# Altium footprint library SNAKE_FYP.PcbLib: 25 footprints (part 2 of 2)
Each footprint in its own frame and in the unit in brackets; x right, y up, seen from the top. Pads: shape width x height; smd on the part's side, far side on the other; paste and mask are expansions set on the pad; w line width, h text height; cw(c..) or ccw(c..) is an arc to the next point about the centre after c.
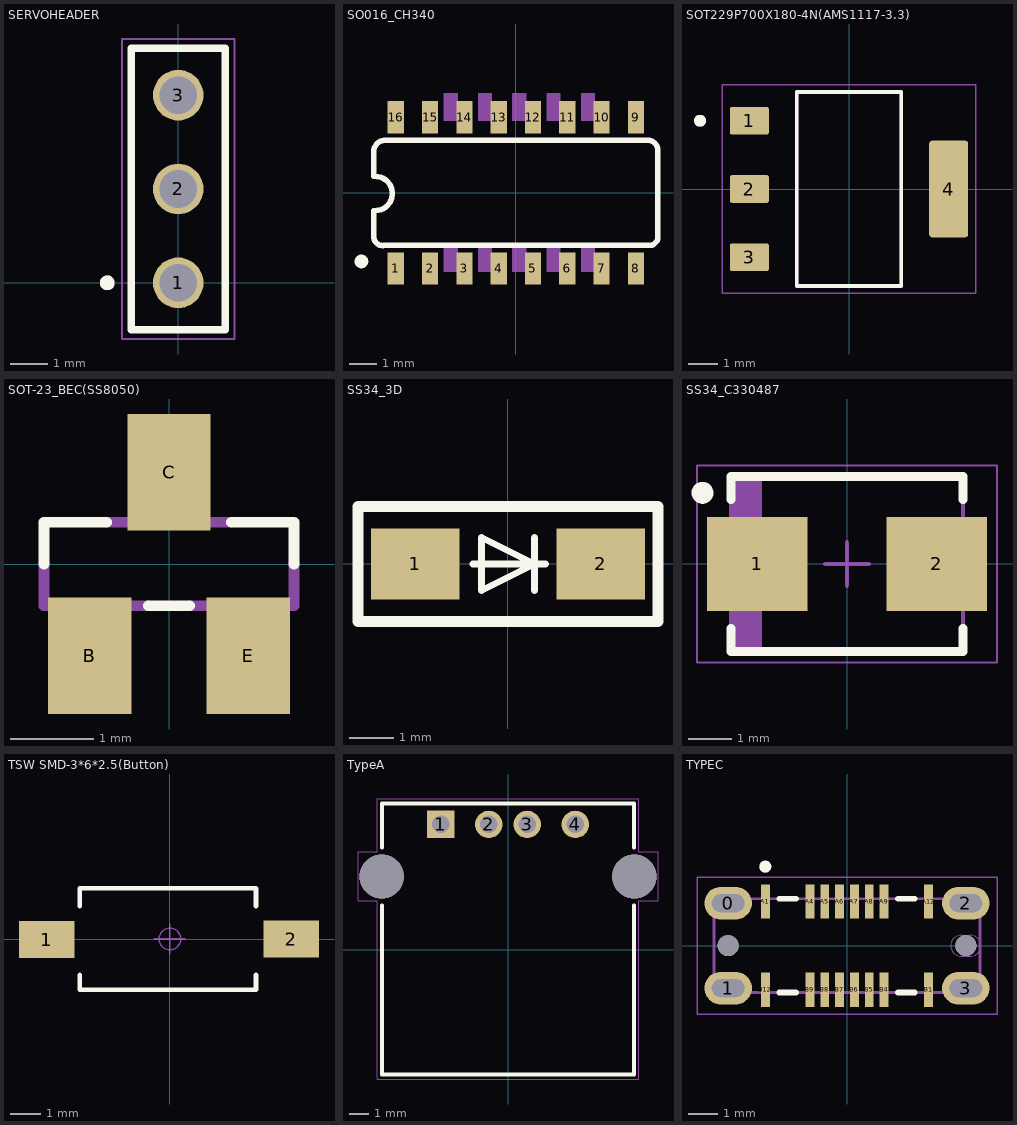
[diagram p1: the footprints below, top view; thin cyan lines are the x and y axes]

## SERVOHEADER [mm]
pads (3):
  round 1.37 hole 1.02: 1(0,0) 2(0,2.54) 3(0,5.08)
Top Overlay:
  circle w0.2: c-1.92,0 r0.1
  lines w0.2: -1.27,-1.27 -1.27,6.35 1.27,6.35 1.27,-1.27 -1.27,-1.27
Mechanical 13:
  circle w0.2: c-1.92,0 r0.1
  lines w0.1: -1.27,-1.27 -1.27,6.35 ; -1.27,-1.27 1.27,-1.27 ; -1.27,-1.27 -1.27,6.35 ; -1.27,6.35 1.27,6.35 ; -1.27,6.35 1.27,6.35 ; 1.27,-1.27 1.27,6.35 ; 1.27,-1.27 1.27,6.35
Mechanical 15:
  lines w0.05: -1.52,-1.52 -1.52,6.6 1.52,6.6 1.52,-1.52 -1.52,-1.52
3D body "TSW-101-24-G-T.stp": height 9.27, standoff -2.92, extent -1.27,-1.27 1.27,6.35

## SO016_CH340 [mm]
pads (16):
  rect 0.6x1.2 smd: 1(-4.445,-2.8) 2(-3.175,-2.8) 3(-1.905,-2.8) 4(-0.635,-2.8) 5(0.635,-2.8) 6(1.905,-2.8) 7(3.175,-2.8) 8(4.445,-2.8) 9(4.445,2.8) 10(3.175,2.8) 11(1.905,2.8) 12(0.635,2.8) 13(-0.635,2.8) 14(-1.905,2.8) 15(-3.175,2.8) 16(-4.445,2.8)
Top Overlay:
  circle w0.254: c-5.715,-2.54 r0.127
  lines w0.203: -5.257,-1.668 ccw(c-4.927,-1.615) -4.874,-1.946 ; -5.258,-1.665 -5.258,-0.66 ; -5.258,0.61 -5.258,1.453 ; -5.257,1.463 cw(c-4.827,1.515) -4.88,1.946 ; -5.207,-0.66 ccw(c-5.207,-0.025) -5.207,0.61 ; -4.877,-1.946 4.977,-1.946 ; -4.877,1.946 4.877,1.946 cw(c4.877,1.565) 5.258,1.565 5.258,-1.565 ; 4.979,-1.946 ccw(c4.927,-1.615) 5.257,-1.563
Mechanical 13:
  region: -4.191,-3.302 -4.699,-3.302 -4.699,-2.273 -4.191,-2.273
  region: -2.159,-2.921 -2.667,-2.921 -2.667,-1.892 -2.159,-1.892
  region: -0.889,-2.921 -1.397,-2.921 -1.397,-1.892 -0.889,-1.892
  region: 0.381,-2.921 -0.127,-2.921 -0.127,-1.892 0.381,-1.892
  region: 1.651,-2.921 1.143,-2.921 1.143,-1.892 1.651,-1.892
  region: 2.921,-2.921 2.413,-2.921 2.413,-1.892 2.921,-1.892
  region: 3.429,-3.302 2.921,-3.302 2.921,-2.273 3.429,-2.273
  region: 4.699,-3.302 4.191,-3.302 4.191,-2.273 4.699,-2.273
  region: -4.191,2.286 -4.699,2.286 -4.699,3.365 -4.191,3.365
  region: -2.159,2.667 -2.667,2.667 -2.667,3.683 -2.159,3.683
  region: -0.889,2.667 -1.397,2.667 -1.397,3.683 -0.889,3.683
  region: 0.381,2.667 -0.127,2.667 -0.127,3.683 0.381,3.683
  region: 1.651,2.667 1.143,2.667 1.143,3.683 1.651,3.683
  region: 2.921,2.667 2.413,2.667 2.413,3.683 2.921,3.683
  region: 3.429,2.286 2.921,2.286 2.921,3.302 3.429,3.302
  region: 4.699,2.286 4.191,2.286 4.191,3.302 4.699,3.302
3D body "step_temp.STEP": height 1.8, standoff 0, extent -4.953,-2.873 5.047,3.127

## SOT229P700X180-4N(AMS1117-3.3) [mm]
height 1.8
pads (4):
  rrect15% 1.31x0.93 smd: 1(-3.345,2.29) 2(-3.345,0) 3(-3.345,-2.29)
  rrect15% 1.31x3.24 smd: 4(3.345,0)
Top Overlay:
  circle w0.2: c-5,2.29 r0.1
  lines w0.127: -1.753,-3.253 1.753,-3.253 1.753,3.253 -1.753,3.253 -1.753,-3.253
Mechanical 13:
  circle w0.2: c-5,2.29 r0.1
  lines w0.127: -1.753,-3.253 1.753,-3.253 1.753,3.253 -1.753,3.253 -1.753,-3.253
Mechanical 15:
  lines w0.05: -4.25,-3.502 -4.25,3.502 4.25,3.502 4.25,-3.502 -4.25,-3.502
3D body "step_temp.STEP": height 1.8, standoff 0, extent -3.499,-3.251 3.499,3.251

## SOT-23_BEC(SS8050) [mm]
pads (3):
  rect 1x1.4 smd: B(-0.95,-1.1) C(0,1.1) E(0.95,-1.1)
Top Overlay:
  lines w0.127: -1.5,0 -1.5,0.5 -0.75,0.5 ; -0.25,-0.5 0.25,-0.5 ; 0.75,0.5 1.5,0.5 1.5,0
Mechanical 13:
  region: 0.229,0.586 -0.229,0.586 -0.229,1.17 0.229,1.17
  region: 1.168,-1.17 0.711,-1.17 0.711,-0.586 1.168,-0.586
  region: -0.711,-1.17 -1.168,-1.17 -1.168,-0.586 -0.711,-0.586
  lines w0.127: -1.5,0 -1.5,-0.5 -0.25,-0.5 ; -0.75,0.5 0.75,0.5 ; 0.25,-0.5 1.5,-0.5 1.5,0
3D body "step_temp.STEP": height 1.22, standoff 0, extent -1.46,-1.185 1.46,1.185

## SS34_3D [mm]
height 2.5
pads (2):
  rect 2x1.6 smd: 1(-2.1,0) 2(2.1,0)
Top Overlay:
  lines w0.152: -0.8,0 0.85,0 ; 0.6,-0.6 0.6,0 ; 0.6,0.6 0.6,0 ; 0.6,0 -0.6,-0.6 -0.6,0 -0.6,0.6 0.6,0
  lines w0.254: -3.4,-1.3 3.4,-1.3 3.4,1.3 -3.4,1.3 -3.4,-1.3
3D body "User Library-DO-214AC_SMA.step": height 2.15, standoff -0.05, extent -2.46,-1.36 2.54,1.34

## SS34_C330487 [mm] "Molded Diode, 2-Leads, Body 5.20x3.62mm, IPC Medium Density"
height 2.44
pads (2):
  rect 2.3x2.15 smd: 1(-2.05,0) 2(2.05,0)
Top Overlay:
  circle w0.25: c-3.3,1.625 r0.125
  lines w0.2: -2.65,-1.475 -2.65,-2 2.65,-2 2.65,-1.475 ; -2.65,1.475 -2.65,2 2.65,2 2.65,1.475
Mechanical 13:
  rectangle: -2.65,-1.97 -1.937,1.97
  lines w0.1: -2.65,-1.97 2.65,-1.97 2.65,1.97 -2.65,1.97 -2.65,-1.97
Mechanical 15:
  lines w0.05: -3.425,-2.25 3.425,-2.25 3.425,2.25 -3.425,2.25 -3.425,-2.25
  lines w0.1: -0.5,0 0.5,0 ; 0,-0.5 0,0.5
3D body: height 2.44, standoff 0, extent -2.65,-1.97 2.65,1.97

## TSW SMD-3*6*2.5(Button) [mm] "3*6*2.5mm"
pads (2):
  rect 1.8x1.2 smd: 1(-3.996,-0.02) 2(3.937,0)
Top Overlay:
  lines w0.152: -2.921,-1.168 -2.921,-1.651 2.794,-1.651 2.794,-1.168 ; -2.921,1.067 -2.921,1.651 2.794,1.651 2.794,1.067
Mechanical 15:
  circle w0.05: c0,0 r0.35
  lines w0.05: -0.5,0 0.5,0 ; 0,-0.5 0,0.5
3D body "TSW SMD-3x6x2.5.STEP": height 2.59, standoff -0.03, extent -4,-1.75 4,1.75

## TypeA [mm]
pads (6):
  rect 1.428x1.428 / inner round 1.428 / far side rect 1.428x1.428 hole 0.92: 1(-3.5,6.51)
  round 1.428 hole 0.92: 2(-1,6.51) 3(1,6.51) 4(3.5,6.51)
  round 2.3 hole 2.3 unplated: ""(-6.57,3.8) ""(6.57,3.8)
Top Overlay:
  lines w0.2: -6.55,2.3 -6.55,-6.5 6.55,-6.5 6.55,2.3 ; -6.55,5.3 -6.55,7.6 6.55,7.6 6.55,5.3
Mechanical 15:
  lines w0.05: -7.8,2.55 -7.8,5.1 -6.8,5.1 -6.8,7.85 6.8,7.85 6.8,5.1 7.8,5.1 7.8,2.55 6.8,2.55 6.8,-6.75 -6.8,-6.75 -6.8,2.55 -7.8,2.55
3D body "step_temp.STEP": height 7.56, standoff -3.24, extent -7.9,-6.35 7.9,7.75

## TYPEC [mm]
height 7.66
pads (22):
  oval 1.6x1.1 hole 0.6 slot 1.1 at 0 deg: 0(-4,1.43) 1(-4,-1.43) 2(4,1.43) 3(4,-1.43)
  rect 0.3x1.15 smd: A1(-2.75,1.485) A4(-1.25,1.485) A5(-0.75,1.485) A6(-0.25,1.485) A7(0.25,1.485) A8(0.75,1.485) A9(1.25,1.485) A12(2.75,1.485) B1(2.75,-1.485) B4(1.25,-1.485) B5(0.75,-1.485) B6(0.25,-1.485) B7(-0.25,-1.485) B8(-0.75,-1.485) B9(-1.25,-1.485) B12(-2.75,-1.485)
  round 0.71 hole 0.71 unplated: ""(-4,0) ""(4,0)
Top Overlay:
  circle w0.2: c-2.75,2.66 r0.1
  lines w0.2: -2.28,-1.58 -1.72,-1.58 ; -2.28,1.58 -1.72,1.58 ; 1.72,-1.58 2.28,-1.58 ; 1.72,1.58 2.28,1.58
Mechanical 1:
  lines w0: 3.495,0 cw(c3.85,0) 3.85,0.355 4.15,0.355 cw(c4.15,0) 4.505,0 cw(c4.15,0) 4.15,-0.355 3.85,-0.355 cw(c3.85,0) 3.495,0
Mechanical 13:
  circle w0.2: c-2.75,2.66 r0.1
  lines w0.1: -4.47,-1.58 4.47,-1.58 4.47,1.58 -4.47,1.58 -4.47,-1.58
Mechanical 15:
  lines w0.05: -5.05,-2.31 5.05,-2.31 5.05,2.31 -5.05,2.31 -5.05,-2.31
3D body "usb4145-03-0230-c.stp": height 3.15, standoff -0.54, extent -4.475,-8.222 4.47,1.538